# Altium footprint library 杂项库.PcbLib: 585 footprints (part 25 of 37)
Each footprint in its own frame and in the unit in brackets; x right, y up, seen from the top. Pads: shape width x height; smd on the part's side, far side on the other; paste and mask are expansions set on the pad; w line width, h text height; cw(c..) or ccw(c..) is an arc to the next point about the centre after c.
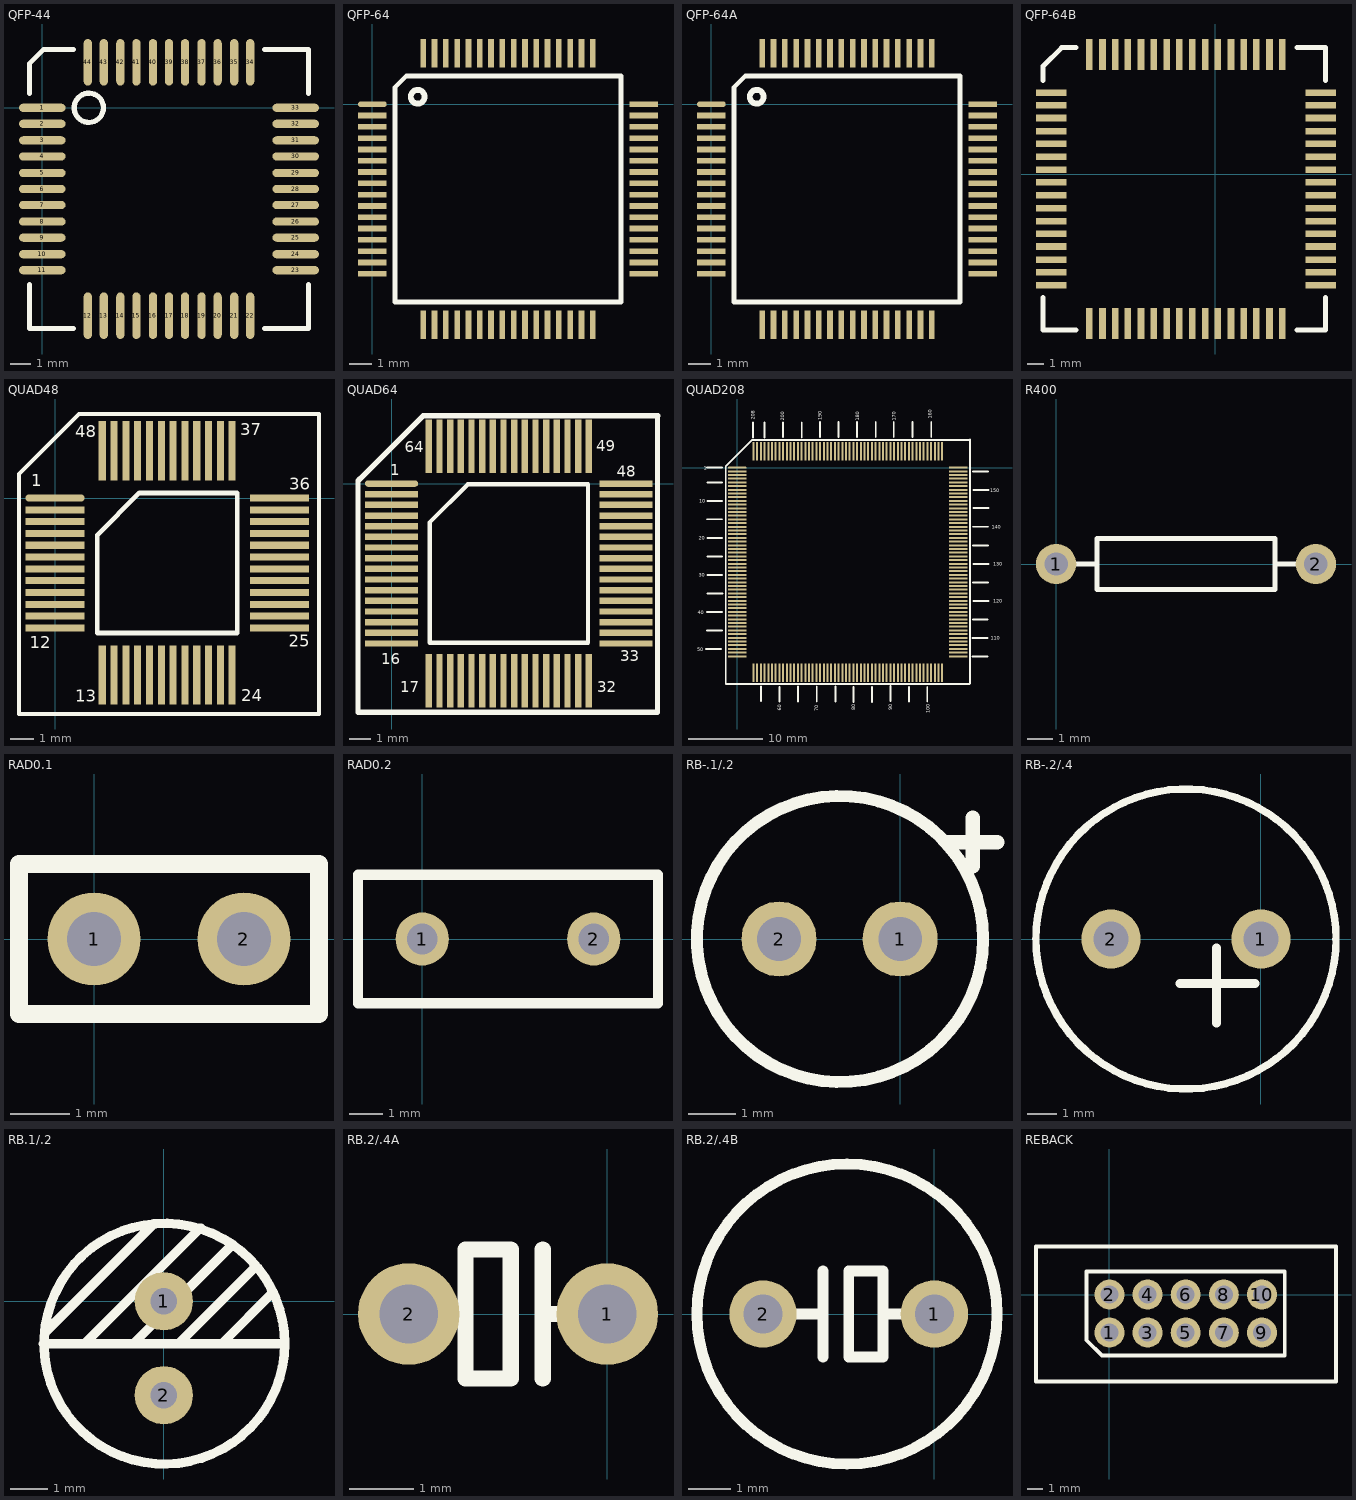
[diagram p24: the footprints below, top view; thin cyan lines are the x and y axes]

## QFP-44 [mil]
pads (44):
  oval 90x16 smd: 1(0,0) 2(0,-31) 3(0,-63) 4(0,-94) 5(0,-126) 6(0,-157) 7(0,-188) 8(0,-220) 9(0,-251) 10(0,-283) 11(0,-314) 23(490,-314) 24(490,-283) 25(490,-251) 26(490,-220) 27(490,-188) 28(490,-157) 29(490,-126) 30(490,-94) 31(490,-63) 32(490,-31) 33(490,0)
  oval 16x90 smd: 12(88,-402) 13(119,-402) 14(151,-402) 15(182,-402) 16(214,-402) 17(245,-402) 18(276,-402) 19(308,-402) 20(339,-402) 21(371,-402) 22(402,-402) 34(402,88) 35(371,88) 36(339,88) 37(308,88) 38(276,88) 39(245,88) 40(214,88) 41(182,88) 42(151,88) 43(119,88) 44(88,88)
Top Overlay:
  circle w10: c90,0 r28.28
  lines w10: -25,-342 -25,-427 60,-427 ; -25,28 -25,85 3,113 60,113 ; 430,-427 515,-427 515,-342 ; 430,113 515,113 515,28

## QFP-64 [mil]
pads (64):
  oval 50x10 smd: 1(0,0)
  rect 50x10 smd: 2(0,-19.69) 3(0,-39.37) 4(0,-59.06) 5(0,-78.74) 6(0,-98.43) 7(0,-118.11) 8(0,-137.8) 9(0,-157.48) 10(0,-177.17) 11(0,-196.85) 12(0,-216.54) 13(0,-236.22) 14(0,-255.91) 15(0,-275.59) 16(0,-295.28) 33(472.44,-295.28) 34(472.44,-275.59) 35(472.44,-255.91) 36(472.44,-236.22) 37(472.44,-216.54) 38(472.44,-196.85) 39(472.44,-177.17) 40(472.44,-157.48) 41(472.44,-137.8) 42(472.44,-118.11) 43(472.44,-98.43) 44(472.44,-78.74) 45(472.44,-59.06) 46(472.44,-39.37) 47(472.44,-19.69) 48(472.44,0)
  rect 10x50 smd: 17(88.58,-383.86) 18(108.27,-383.86) 19(127.95,-383.86) 20(147.64,-383.86) 21(167.32,-383.86) 22(187.01,-383.86) 23(206.69,-383.86) 24(226.38,-383.86) 25(246.06,-383.86) 26(265.75,-383.86) 27(285.43,-383.86) 28(305.12,-383.86) 29(324.8,-383.86) 30(344.49,-383.86) 31(364.17,-383.86) 32(383.86,-383.86) 49(383.86,88.58) 50(364.17,88.58) 51(344.49,88.58) 52(324.8,88.58) 53(305.12,88.58) 54(285.43,88.58) 55(265.75,88.58) 56(246.06,88.58) 57(226.38,88.58) 58(206.69,88.58) 59(187.01,88.58) 60(167.32,88.58) 61(147.64,88.58) 62(127.95,88.58) 63(108.27,88.58) 64(88.58,88.58)
Top Overlay:
  circle w10: c78.96,13 r12.04
  lines w8: 39.37,-344.49 433.07,-344.49 433.07,49.21 59.05,49.21 39.37,29.53 39.37,-344.49

## QFP-64A [mil]
pads (64):
  oval 50x10 smd: 1(0,0)
  rect 50x10 smd: 2(0,-19.69) 3(0,-39.37) 4(0,-59.06) 5(0,-78.74) 6(0,-98.43) 7(0,-118.11) 8(0,-137.8) 9(0,-157.48) 10(0,-177.17) 11(0,-196.85) 12(0,-216.54) 13(0,-236.22) 14(0,-255.91) 15(0,-275.59) 16(0,-295.28) 33(472.44,-295.28) 34(472.44,-275.59) 35(472.44,-255.91) 36(472.44,-236.22) 37(472.44,-216.54) 38(472.44,-196.85) 39(472.44,-177.17) 40(472.44,-157.48) 41(472.44,-137.8) 42(472.44,-118.11) 43(472.44,-98.43) 44(472.44,-78.74) 45(472.44,-59.06) 46(472.44,-39.37) 47(472.44,-19.69) 48(472.44,0)
  rect 10x50 smd: 17(88.58,-383.86) 18(108.27,-383.86) 19(127.95,-383.86) 20(147.64,-383.86) 21(167.32,-383.86) 22(187.01,-383.86) 23(206.69,-383.86) 24(226.38,-383.86) 25(246.06,-383.86) 26(265.75,-383.86) 27(285.43,-383.86) 28(305.12,-383.86) 29(324.8,-383.86) 30(344.49,-383.86) 31(364.17,-383.86) 32(383.86,-383.86) 49(383.86,88.58) 50(364.17,88.58) 51(344.49,88.58) 52(324.8,88.58) 53(305.12,88.58) 54(285.43,88.58) 55(265.75,88.58) 56(246.06,88.58) 57(226.38,88.58) 58(206.69,88.58) 59(187.01,88.58) 60(167.32,88.58) 61(147.64,88.58) 62(127.95,88.58) 63(108.27,88.58) 64(88.58,88.58)
Top Overlay:
  circle w10: c78.96,13 r12.04
  lines w8: 39.37,-344.49 433.07,-344.49 433.07,49.21 59.05,49.21 39.37,29.53 39.37,-344.49

## QFP-64B [mil]
pads (64):
  rect 75x16 smd: 1(-400,200) 2(-400,169) 3(-400,138) 4(-400,106) 5(-400,75) 6(-400,43) 7(-400,12) 8(-400,-19) 9(-400,-51) 10(-400,-82) 11(-400,-114) 12(-400,-145) 13(-400,-176) 14(-400,-208) 15(-400,-239) 16(-400,-271) 33(258,-271) 34(258,-239) 35(258,-208) 36(258,-176) 37(258,-145) 38(258,-114) 39(258,-82) 40(258,-51) 41(258,-19) 42(258,12) 43(258,43) 44(258,75) 45(258,106) 46(258,138) 47(258,169) 48(258,200)
  rect 16x75 smd: 17(-307,-364) 18(-275,-364) 19(-244,-364) 20(-213,-364) 21(-181,-364) 22(-150,-364) 23(-118,-364) 24(-87,-364) 25(-56,-364) 26(-24,-364) 27(7,-364) 28(39,-364) 29(70,-364) 30(101,-364) 31(133,-364) 32(164,-364) 49(164,293) 50(133,293) 51(101,293) 52(70,293) 53(39,293) 54(7,293) 55(-24,293) 56(-56,293) 57(-87,293) 58(-118,293) 59(-150,293) 60(-181,293) 61(-213,293) 62(-244,293) 63(-275,293) 64(-307,293)
Top Overlay:
  lines w12: -420,-300 -420,-380 -340,-380 ; -420,230 -420,265 -375,310 -340,310 ; 200,-380 270,-380 270,-300 ; 200,310 270,310 270,230

## QUAD48 [mm]
pads (48):
  oval 2.5x0.3 smd: 1(0,0)
  rect 2.5x0.3 smd: 2(0,-0.5) 3(0,-1) 4(0,-1.5) 5(0,-2) 6(0,-2.5) 7(0,-3) 8(0,-3.5) 9(0,-4) 10(0,-4.5) 11(0,-5) 12(0,-5.5) 25(9.5,-5.5) 26(9.5,-5) 27(9.5,-4.5) 28(9.5,-4) 29(9.5,-3.5) 30(9.5,-3) 31(9.5,-2.5) 32(9.5,-2) 33(9.5,-1.5) 34(9.5,-1) 35(9.5,-0.5) 36(9.5,0)
  rect 0.3x2.5 smd: 13(2,-7.5) 14(2.5,-7.5) 15(3,-7.5) 16(3.5,-7.5) 17(4,-7.5) 18(4.5,-7.5) 19(5,-7.5) 20(5.5,-7.5) 21(6,-7.5) 22(6.5,-7.5) 23(7,-7.5) 24(7.5,-7.5) 37(7.5,2) 38(7,2) 39(6.5,2) 40(6,2) 41(5.5,2) 42(5,2) 43(4.5,2) 44(4,2) 45(3.5,2) 46(3,2) 47(2.5,2) 48(2,2)
Top Overlay:
  lines w0.178: -1.524,-9.144 -1.524,1.016 1.016,3.556 11.176,3.556 11.176,-9.144 -1.524,-9.144
  lines w0.2: 1.785,-5.715 7.715,-5.715 7.715,0.215 3.57,0.215 1.785,-1.57 1.785,-5.715
  text "48" at 0.85,2.575 h0.51
  text "37" at 7.85,2.65 h0.51
  text "36" at 9.925,0.35 h0.51
  text "25" at 9.9,-6.3 h0.51
  text "24" at 7.875,-8.6 h0.51
  text "13" at 0.85,-8.625 h0.51
  text "12" at -1.075,-6.35 h0.51
  text "1" at -1.016,0.508 h0.51

## QUAD64 [mm]
pads (64):
  oval 2.5x0.3 smd: 1(0,0)
  rect 2.5x0.3 smd: 2(0,-0.5) 3(0,-1) 4(0,-1.5) 5(0,-2) 6(0,-2.5) 7(0,-3) 8(0,-3.5) 9(0,-4) 10(0,-4.5) 11(0,-5) 12(0,-5.5) 13(0,-6) 14(0,-6.5) 15(0,-7) 16(0,-7.5) 33(11,-7.5) 34(11,-7) 35(11,-6.5) 36(11,-6) 37(11,-5.5) 38(11,-5) 39(11,-4.5) 40(11,-4) 41(11,-3.5) 42(11,-3) 43(11,-2.5) 44(11,-2) 45(11,-1.5) 46(11,-1) 47(11,-0.5) 48(11,0)
  rect 0.3x2.5 smd: 17(1.75,-9.25) 18(2.25,-9.25) 19(2.75,-9.25) 20(3.25,-9.25) 21(3.75,-9.25) 22(4.25,-9.25) 23(4.75,-9.25) 24(5.25,-9.25) 25(5.75,-9.25) 26(6.25,-9.25) 27(6.75,-9.25) 28(7.25,-9.25) 29(7.75,-9.25) 30(8.25,-9.25) 31(8.75,-9.25) 32(9.25,-9.25) 49(9.25,1.75) 50(8.75,1.75) 51(8.25,1.75) 52(7.75,1.75) 53(7.25,1.75) 54(6.75,1.75) 55(6.25,1.75) 56(5.75,1.75) 57(5.25,1.75) 58(4.75,1.75) 59(4.25,1.75) 60(3.75,1.75) 61(3.25,1.75) 62(2.75,1.75) 63(2.25,1.75) 64(1.75,1.75)
Top Overlay:
  lines w0.2: 1.785,-7.465 1.785,-1.82 3.57,-0.035 9.215,-0.035 9.215,-7.465 1.785,-7.465
  lines w0.254: -1.524,0.203 -1.524,0.178 1.473,3.175 ; 1.473,3.175 -1.575,0.127 -1.575,-10.719 12.471,-10.719 12.471,3.15 12.497,3.175 1.473,3.175
  text "64" at 0.61,1.473 h0.51
  text "49" at 9.601,1.524 h0.51
  text "48" at 10.566,0.33 h0.51
  text "33" at 10.719,-8.331 h0.51
  text "32" at 9.652,-9.779 h0.51
  text "17" at 0.406,-9.779 h0.51
  text "16" at -0.483,-8.484 h0.51
  text "1" at -0.051,0.381 h0.51

## QUAD208 [mm]
pads (208):
  oval 2.5x0.275 smd: 1(0,0)
  rect 2.5x0.275 smd: 2(0,-0.5) 3(0,-1) 4(0,-1.5) 5(0,-2) 6(0,-2.5) 7(0,-3) 8(0,-3.5) 9(0,-4) 10(0,-4.5) 11(0,-5) 12(0,-5.5) 13(0,-6) 14(0,-6.5) 15(0,-7) 16(0,-7.5) 17(0,-8) 18(0,-8.5) 19(0,-9) 20(0,-9.5) 21(0,-10) 22(0,-10.5) 23(0,-11) 24(0,-11.5) 25(0,-12) 26(0,-12.5) 27(0,-13) 28(0,-13.5) 29(0,-14) 30(0,-14.5) 31(0,-15) 32(0,-15.5) 33(0,-16) 34(0,-16.5) 35(0,-17) 36(0,-17.5) 37(0,-18) 38(0,-18.5) 39(0,-19) 40(0,-19.5) 41(0,-20) 42(0,-20.5) 43(0,-21) 44(0,-21.5) 45(0,-22) 46(0,-22.5) 47(0,-23) 48(0,-23.5) 49(0,-24) 50(0,-24.5) 51(0,-25) 52(0,-25.5) 105(29.9,-25.5) 106(29.9,-25) 107(29.9,-24.5) 108(29.9,-24) 109(29.9,-23.5) 110(29.9,-23) 111(29.9,-22.5) 112(29.9,-22) 113(29.9,-21.5) 114(29.9,-21) 115(29.9,-20.5) 116(29.9,-20) 117(29.9,-19.5) 118(29.9,-19) 119(29.9,-18.5) 120(29.9,-18) 121(29.9,-17.5) 122(29.9,-17) 123(29.9,-16.5) 124(29.9,-16) 125(29.9,-15.5) 126(29.9,-15) 127(29.9,-14.5) 128(29.9,-14) 129(29.9,-13.5) 130(29.9,-13) 131(29.9,-12.5) 132(29.9,-12) 133(29.9,-11.5) 134(29.9,-11) 135(29.9,-10.5) 136(29.9,-10) 137(29.9,-9.5) 138(29.9,-9) 139(29.9,-8.5) 140(29.9,-8) 141(29.9,-7.5) 142(29.9,-7) 143(29.9,-6.5) 144(29.9,-6) 145(29.9,-5.5) 146(29.9,-5) 147(29.9,-4.5) 148(29.9,-4) 149(29.9,-3.5) 150(29.9,-3) 151(29.9,-2.5) 152(29.9,-2) 153(29.9,-1.5) 154(29.9,-1) 155(29.9,-0.5) 156(29.9,0)
  rect 0.275x2.5 smd: 53(2.2,-27.7) 54(2.7,-27.7) 55(3.2,-27.7) 56(3.7,-27.7) 57(4.2,-27.7) 58(4.7,-27.7) 59(5.2,-27.7) 60(5.7,-27.7) 61(6.2,-27.7) 62(6.7,-27.7) 63(7.2,-27.7) 64(7.7,-27.7) 65(8.2,-27.7) 66(8.7,-27.7) 67(9.2,-27.7) 68(9.7,-27.7) 69(10.2,-27.7) 70(10.7,-27.7) 71(11.2,-27.7) 72(11.7,-27.7) 73(12.2,-27.7) 74(12.7,-27.7) 75(13.2,-27.7) 76(13.7,-27.7) 77(14.2,-27.7) 78(14.7,-27.7) 79(15.2,-27.7) 80(15.7,-27.7) 81(16.2,-27.7) 82(16.7,-27.7) 83(17.2,-27.7) 84(17.7,-27.7) 85(18.2,-27.7) 86(18.7,-27.7) 87(19.2,-27.7) 88(19.7,-27.7) 89(20.2,-27.7) 90(20.7,-27.7) 91(21.2,-27.7) 92(21.7,-27.7) 93(22.2,-27.7) 94(22.7,-27.7) 95(23.2,-27.7) 96(23.7,-27.7) 97(24.2,-27.7) 98(24.7,-27.7) 99(25.2,-27.7) 100(25.7,-27.7) 101(26.2,-27.7) 102(26.7,-27.7) 103(27.2,-27.7) 104(27.7,-27.7) 157(27.7,2.2) 158(27.2,2.2) 159(26.7,2.2) 160(26.2,2.2) 161(25.7,2.2) 162(25.2,2.2) 163(24.7,2.2) 164(24.2,2.2) 165(23.7,2.2) 166(23.2,2.2) 167(22.7,2.2) 168(22.2,2.2) 169(21.7,2.2) 170(21.2,2.2) 171(20.7,2.2) 172(20.2,2.2) 173(19.7,2.2) 174(19.2,2.2) 175(18.7,2.2) 176(18.2,2.2) 177(17.7,2.2) 178(17.2,2.2) 179(16.7,2.2) 180(16.2,2.2) 181(15.7,2.2) 182(15.2,2.2) 183(14.7,2.2) 184(14.2,2.2) 185(13.7,2.2) 186(13.2,2.2) 187(12.7,2.2) 188(12.2,2.2) 189(11.7,2.2) 190(11.2,2.2) 191(10.7,2.2) 192(10.2,2.2) 193(9.7,2.2) 194(9.2,2.2) 195(8.7,2.2) 196(8.2,2.2) 197(7.7,2.2) 198(7.2,2.2) 199(6.7,2.2) 200(6.2,2.2) 201(5.7,2.2) 202(5.2,2.2) 203(4.7,2.2) 204(4.2,2.2) 205(3.7,2.2) 206(3.2,2.2) 207(2.7,2.2) 208(2.2,2.2)
Top Overlay:
  lines w0.254: -4.216,-24.536 -2.184,-24.536 ; -4.089,-19.533 -2.057,-19.533 ; -4.064,-22.022 -2.032,-22.022 ; -4.064,-6.985 -2.032,-6.985 ; -4.064,0 -2.032,0 ; -4.057,-14.5 -2.025,-14.5 ; -4.057,-12.025 -2.025,-12.025 ; -4.057,-9.525 -2.025,-9.525 ; -4.057,-4.525 -2.025,-4.525 ; -4.057,-2 -2.025,-2 ; -4.032,-17 -2,-17 ; 2.108,4.039 2.108,6.071 ; 3.2,-31.582 3.2,-29.55 ; 3.683,4.064 3.683,6.096 ; 5.715,-31.648 5.715,-29.616 ; 6.198,4.089 6.198,6.121 ; 8.204,-31.623 8.204,-29.591 ; 8.712,4.064 8.712,6.096 ; 10.744,-31.623 10.744,-29.591 ; 11.2,4.125 11.2,6.157 ; 13.259,-31.623 13.259,-29.591 ; 13.7,4.125 13.7,6.157 ; 15.7,-31.657 15.7,-29.625 ; 16.205,4.14 16.205,6.172 ; 18.2,-31.657 18.2,-29.625 ; 18.72,4.115 18.72,6.147 ; 20.701,-31.572 20.701,-29.54 ; 21.158,4.115 21.158,6.147 ; 23.216,-31.648 23.216,-29.616 ; 23.698,4.115 23.698,6.147 ; 25.679,-31.648 25.679,-29.616 ; 26.213,4.14 26.213,6.172 ; 31.801,-25.527 33.833,-25.527 ; 31.801,-23.012 33.833,-23.012 ; 31.826,-20.523 33.858,-20.523 ; 31.85,-0.525 33.882,-0.525 ; 31.852,-8.001 33.884,-8.001 ; 31.875,-15.525 33.907,-15.525 ; 31.877,-10.541 33.909,-10.541 ; 31.902,-13.005 33.934,-13.005 ; 31.902,-5.486 33.934,-5.486 ; 31.902,-3.023 33.934,-3.023 ; 31.928,-18.009 33.96,-18.009 ; -1.549,-29.235 -1.549,0.152 2.032,3.734 2.261,3.734 31.42,3.734 31.471,3.785 31.471,-29.134 31.369,-29.235 -1.549,-29.235
  text "10" at -5.156,-4.775 h0.51
  text "180" at 16.485,6.35 h0.51
  text "160" at 26.289,6.604 h0.51
  text "208" at 2.337,6.452 h0.51
  text "200" at 6.35,6.35 h0.51
  text "190" at 11.43,6.375 h0.51
  text "170" at 21.412,6.35 h0.51
  text "130" at 34.569,-13.233 h0.51
  text "120" at 34.595,-18.263 h0.51
  text "110" at 34.29,-23.266 h0.51
  text "100" at 25.984,-33.172 h0.51
  text "90" at 20.955,-32.766 h0.51
  text "80" at 15.977,-32.817 h0.51
  text "60" at 5.918,-32.893 h0.51
  text "20" at -5.232,-9.754 h0.51
  text "1" at -4.521,-0.305 h0.51
  text "30" at -5.207,-14.732 h0.51
  text "40" at -5.359,-19.787 h0.51
  text "50" at -5.436,-24.79 h0.51
  text "140" at 34.417,-8.255 h0.51
  text "150" at 34.188,-3.302 h0.51
  text "70" at 10.947,-32.918 h0.51

## R400 [mil]
pads (2):
  round 62 hole 36: 1(0,0) 2(400,0)
Top Overlay:
  lines w7.87: 0,0 62.99,0 ; 337.01,0 400,0 ; 62.99,-39.37 337.01,-39.37 337.01,39.37 62.99,39.37 62.99,-39.37

## RAD0.1 [mil]
pads (2):
  round 62 hole 36: 1(0,0) 2(100,0)
Top Overlay:
  lines w12: -50,-50 -50,50 150,50 150,-50 -50,-50

## RAD0.2 [mil]
pads (2):
  round 62 hole 36: 1(0,0) 2(200,0)
Top Overlay:
  lines w12: -75,-75 275,-75 275,75 -75,75 -75,-75

## RB-.1/.2 [mil]
pads (2):
  round 62 hole 36: 1(0,0) 2(-100,0)
Top Overlay:
  circle w10: c-49.61,0 r118.11
  lines w12: 40,80 80,80 ; 60,60 60,100

## RB-.2/.4 [mm]
pads (2):
  round 2 hole 1.2: 1(0,0) 2(-5.08,0)
Top Overlay:
  circle w0.254: c-2.54,0 r5.08
  lines w0.305: -2.74,-1.5 -0.2,-1.5 ; -1.5,-2.84 -1.5,-0.3

## RB.1/.2 [mil]
pads (2):
  round 62 hole 28: 1(0,0) 2(0,-100)
Top Overlay:
  circle w10: c0.54,-45.21 r128.06
  lines w10: -128.46,-45.27 128.54,-45.27 ; -126.46,-33.27 -10.46,82.73 ; -84.46,-45.27 38.54,77.73 39.54,77.73 ; -32.46,-45.27 72.54,59.73 73.54,59.73 ; 15.54,-45.27 97.54,36.73 ; 61.54,-45.27 116.54,9.73

## RB.2/.4A [mil]
pads (2):
  round 62 hole 36: 1(0,0) 2(-121.26,0)
Top Overlay:
  lines w10: -121.26,0 -86.61,0 ; -39.37,-39.37 -39.37,39.37 ; -39.37,0 0,0 ; -86.61,-39.37 -59.05,-39.37 -59.05,39.37 -86.61,39.37 -86.61,-39.37

## RB.2/.4B [mil]
pads (2):
  round 62 hole 36: 1(0,0) 2(-157.48,0)
Top Overlay:
  circle w10: c-80.31,0 r137.79
  lines w10: -157.48,0 -102.36,0 ; -102.36,-39.37 -102.36,39.37 ; -47.24,0 0,0 ; -78.74,-39.37 -47.24,-39.37 -47.24,39.37 -78.74,39.37 -78.74,-39.37

## REBACK [mm]
pads (10):
  round 2 hole 1.2: 1(0,-2.54) 2(0,0) 3(2.54,-2.54) 4(2.54,0) 5(5.08,-2.54) 6(5.08,0) 7(7.62,-2.54) 8(7.62,0) 9(10.16,-2.54) 10(10.16,0)
Top Overlay:
  lines w0.254: -4.9,-5.8 -4.9,3.2 15.1,3.2 15.1,-5.8 -4.9,-5.8 ; -1.524,-3.048 -1.524,1.524 11.684,1.524 11.684,-4.064 -0.508,-4.064 -1.524,-3.048